# Altium footprint library LM2587.PcbLib: 2 footprints
Each footprint in its own frame and in the unit in brackets; x right, y up, seen from the top. Pads: shape width x height; smd on the part's side, far side on the other; paste and mask are expansions set on the pad; w line width, h text height; cw(c..) or ccw(c..) is an arc to the next point about the centre after c.
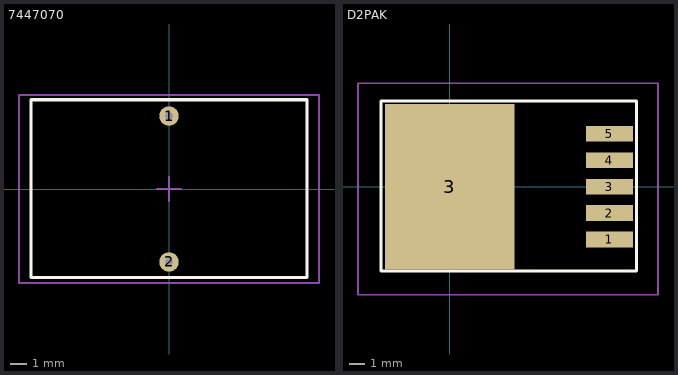
[diagram p0: the footprints below, top view; thin cyan lines are the x and y axes]

## 7447070 [mm] "0.984\" Dia x 0.433\" W (25.00mm x 11.00mm)"
height 25
pads (2):
  round 1.2 hole 0.52: 1(0,4.5) 2(0,-4.5)
Top Overlay:
  lines w0.2: -8.509,-2.9 -8.509,2.9 ; -8.509,-2.603 -8.509,-5.461 8.469,-5.461 8.509,-5.461 8.509,5.503 -8.255,5.503 -8.509,5.503 -8.509,2.561
Mechanical 15:
  lines w0.1: -0.762,0 0.762,0 ; 0,-0.762 0,0.762 ; -9.25,-5.8 9.25,-5.8 9.25,5.8 -9.25,5.8 -9.25,-5.8
3D body "7447010.stp": height 16.41, standoff -14.89, extent -8.209,-4.749 8.209,4.75

## D2PAK [mm]
pads (6):
  rect 3.05x1.016 smd mask+0.05: 1(10.305,-3.404) 2(10.305,-1.702) 3(10.305,0) 4(10.305,1.702) 5(10.305,3.404)
  rect 8.38x10.66 smd mask+0.05: 3(0,0)
Top Overlay:
  lines w0.2: -4.445,5.499 -4.445,-5.448 12.04,-5.448 12.04,5.461 ; -4.42,5.524 12.04,5.524
Mechanical 15:
  lines w0.1: -5.753,6.68 13.437,6.68 13.437,-6.985 -5.918,-6.985 -5.918,6.68 -5.588,6.68 ; -1.25,0 1.25,0 ; 0,-1.25 0,1.25
3D body "LM2596DSADJG.STEP": height 4.57, standoff 0, extent -3.349,-5.147 10.849,5